# EAGLE library part IMU_NXP_ADAFRUIT (library 1mario)
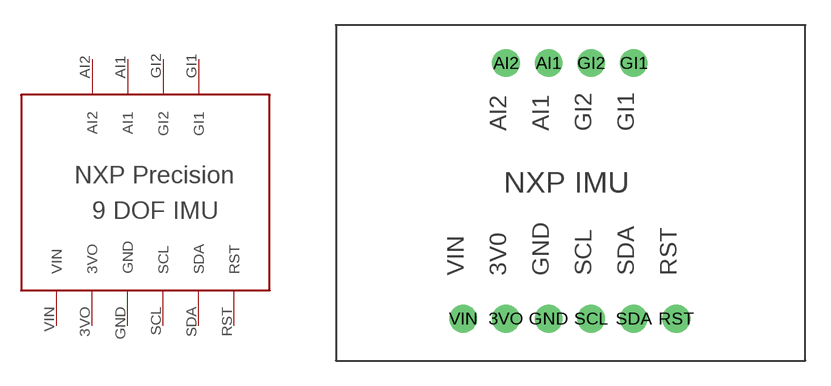
[diagram p1: symbol with the pads of NXP_ADAFRUIT; footprint NXP_ADAFRUIT]

Designator prefix -

## IMU_NXP_ADAFRUIT  [NXP_ADAFRUIT]
3VO  3VO
AI1  AI1
AI2  AI2
GI1  GI1
GI2  GI2
GND  GND
RST  RST
SCL  SCL
SDA  SDA
VIN  VIN

## Footprint NXP_ADAFRUIT (pad centres in mm)
drill 1.1: 3VO 10.14,2.5; AI1 12.68,17.74; AI2 10.14,17.74; GI1 17.76,17.74; GI2 15.22,17.74; GND 12.68,2.5; RST 20.3,2.5; SCL 15.22,2.5; SDA 17.76,2.5; VIN 7.6,2.5